# Altium schematic symbol library Diodes.SchLib: 46 symbols
Pins are listed as number, name and electrical type; pins without a type are passive.

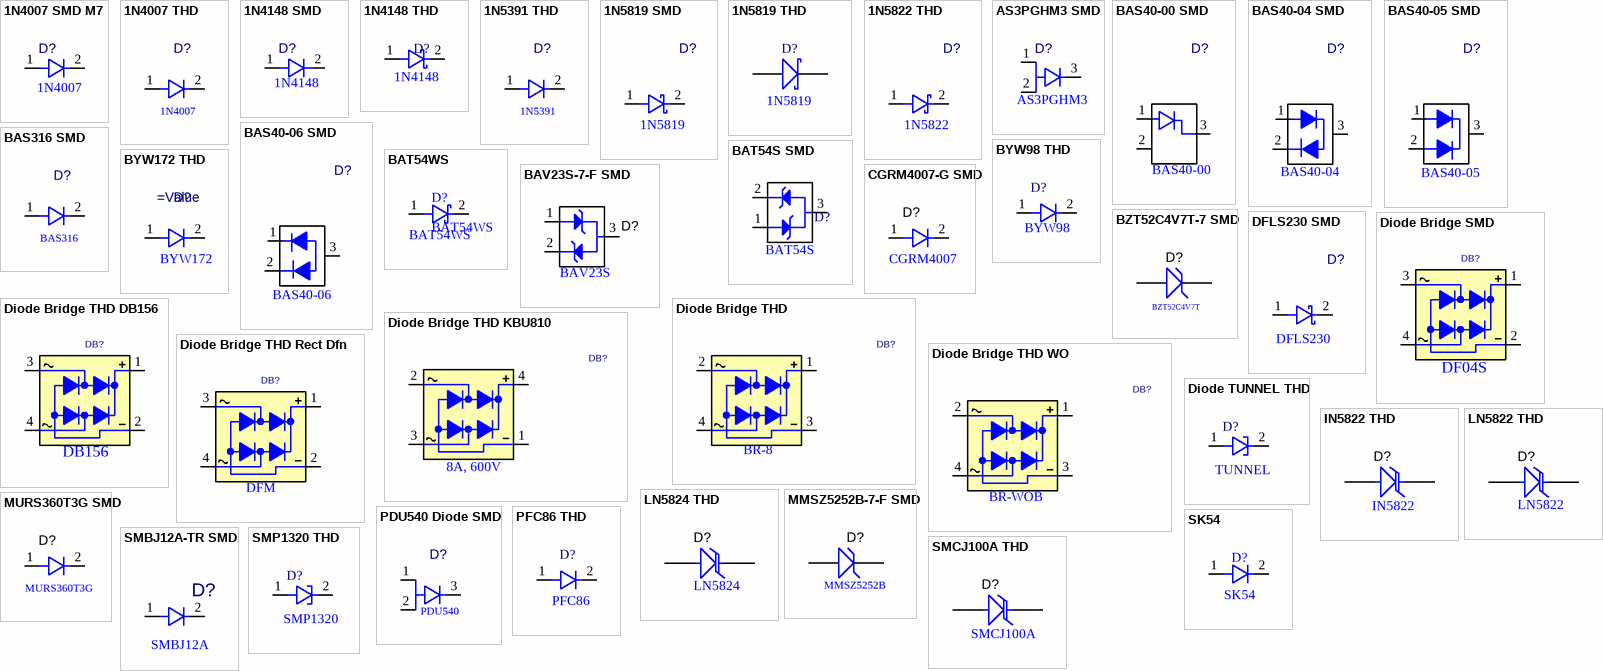
[diagram p0: symbols 1N4007 SMD M7 to SMP1320 THD]

## 1N4007 SMD M7
designator D?  value 1N4007
DIODE, GENERAL PURPOSE, 1000V/1A; DatasheetVersion: 2022
footprint SMA (L4.2-W2.6-LS5.3-RD     JLCPCB)
pins: 1, 2

## 1N4007 THD
designator D?  value 1N4007
DIODE, GENERAL PURPOSE, 1000V/1A; DatasheetVersion: 2022
pins: 1, 2

## 1N4148 SMD
designator D?  value 1N4148
DIODE, FAST SWTICHING, 0.3A, 0.5W; DatasheetVersion: 2022
footprint SOD-323 (L1.8-W1.3-LS2.5-RD        JLCPCB)
pins: 1, 2

## 1N4148 THD
designator D?  value 1N4148
High Conductance Fast Diode; DatasheetVersion: 2022
pins: 1, 2

## 1N5391 THD
designator D?  value 1N5391
DIODE, GENERAL PURPOSE,; DatasheetVersion: 2022
pins: 1, 2

## 1N5819 SMD
designator D?  value 1N5819
DIODE, SCHOTTKY, 40V, 1A; DatasheetVersion: 2022
footprint SOD-123 (L2.8-W1.8-LS3.7-RD        JLCPCB)
pins: 1, 2

## 1N5819 THD
designator D?  value 1N5819
Schottky diode; ComponentLinkp-URL: https://www.smartw.ir/; DatasheetVersion: 2022
pins: 1 A, 2 K

## 1N5822 THD
designator D?  value 1N5822
DIODE, SCHOTTKY, 40V, 3A; DatasheetVersion: 2022
pins: 1 A, 2 K

## AS3PGHM3 SMD
designator D?  value AS3PGHM3
DIODE, FAST, 3A, 400V; DatasheetVersion: 2022
pins: 1 A1, 2 A2, 3 CATHODE

## BAS40-00 SMD
designator D?  value BAS40-00
DIODE, SCHOTTKY, 40V, 0.2A; DatasheetVersion: 2022
pins: 1, 2, 3 "Not Connected"

## BAS40-04 SMD
designator D?  value BAS40-04
DIODE, SCHOTTKY, 40V, 0.2A; DatasheetVersion: 2022
pins: 1, 2, 3 "Not Connected"

## BAS40-05 SMD
designator D?  value BAS40-05
DIODE, SCHOTTKY, 40V, 0.2A; DatasheetVersion: 2022
pins: 1, 2, 3 "Not Connected"

## BAS40-06 SMD
designator D?  value BAS40-06
DIODE, SCHOTTKY, 40V, 0.2A; DatasheetVersion: 2022
pins: 1, 2, 3 "Not Connected"

## BAS316 SMD
designator D?  value BAS316
DIODE, HiSP SW, 100V/0.25A, SOD-323; DatasheetVersion: 2022
pins: 1, 2

## BAT54S SMD
designator D?  value BAT54S
BAT54S / Schottky Barrier Double Diode; DatasheetVersion: 2022
pins: 1 "Not Connected", 2 "Not Connected", 3 "Not Connected"

## BAT54WS
designator D?
SMALL SIGNAL SCHOTTKY DIODE; Value: BAT54WS
footprint SOD-523 (L1.2-W0.8-LS1.6-FD                  JLCPCB)
pins: 1 A, 2 K

## BAV23S-7-F SMD
designator D?  value BAV23S
Diode, Switching, 200 V, 0.4 A, SOT-23; DatasheetVersion: 2022
pins: 1 "Not Connected", 2 "Not Connected", 3 "Not Connected"
1 alternate drawing of the same symbol

## BYW98 THD
designator D?  value BYW98
HIGH EFFICIENCY FAST RECOVERY RECTIFIER DIODES; DatasheetVersion: 2022
pins: 1, 2

## BYW172 THD
designator D?  =Value: BYW172
DIODE, FAST; DatasheetVersion: 2022
pins: 1, 2

## BZT52C4V7T-7 SMD
designator D?  value BZT52C4V7T
Diode, Zener, 4.7 V, 300 mW, SOD-523; DatasheetVersion: 2022
pins: 1 A, 2 K

## CGRM4007-G SMD
designator D?  value CGRM4007
Diode, P-N, 1000 V, 1 A, 3.9x1.7x1.8mm; DatasheetVersion: 2022
pins: 1, 2

## DFLS230 SMD
designator D?  value DFLS230
DIODE, SCHOTTKY, 30V, 2A; DatasheetVersion: 2022
pins: 1, 2

## Diode Bridge SMD
designator DB?  value DF04S
DIODE, BRIDGE,; DatasheetVersion: 2022
pins: 1 DCOUT+, 2 DCOUT-, 3 ACIN2, 4 ACIN1

## Diode Bridge THD
designator DB?  value BR-8
DIODE, BRIDGE, 8A, 600V; DatasheetVersion: 2022
pins: 1 +DC, 2 AC1, 3 -DC, 4 AC2

## Diode Bridge THD DB156
designator DB?  value DB156
DIODE, BRIDGE,; DatasheetVersion: 2022
pins: 1 DCOUT+, 2 DCOUT-, 3 ACIN2, 4 ACIN1

## Diode Bridge THD KBU810
designator DB?  value 8A, 600V
DIODE, BRIDGE, 8A, 600V; DatasheetVersion: 2022
pins: 1 -DC, 2 AC1, 3 AC2, 4 +DC

## Diode Bridge THD Rect Dfn
designator DB?  value DFM
DIODE, BRIDGE,; DatasheetVersion: 2022
pins: 1 DCOUT+, 2 DCOUT-, 3 ACIN2, 4 ACIN1

## Diode Bridge THD WO
designator DB?  value BR-WOB
DIODE, BRIDGE,; DatasheetVersion: 2022
pins: 1 +DC, 2 AC1, 3 -DC, 4 AC2

## Diode TUNNEL THD
designator D?  value TUNNEL
DIODE, THD, TUNNEL or PIN diode; DatasheetVersion: 2022
pins: 1, 2

## IN5822 THD
designator D?  value IN5822
Diode, , 20 - 40V, 3.0 A; DatasheetVersion: 2022
pins: 1 A, 2 K

## LN5822 THD
designator D?  value LN5822
Diode, , 40V, 3.0 A; DatasheetVersion: 2022
pins: 1 A, 2 K

## LN5824 THD
designator D?  value LN5824
Diode, , 20 - 40V, 5.0 A; DatasheetVersion: 2022
pins: 1 A, 2 K

## MMSZ5252B-7-F SMD
designator D?  value MMSZ5252B
Diode, Zener, 24V, 500mW, SOD-123; DatasheetVersion: 2022
pins: 1 A, 2 K

## MURS360T3G SMD
designator D?  value MURS360T3G
Diode, Ultrafast, 600 V, 3 A, SMC; DatasheetVersion: 2022
pins: 1, 2

## PDU540 Diode SMD
designator D?  value PDU540
DIODE, FAST, 5A, 400V; DatasheetVersion: 2022
pins: 1 A1, 2 A2, 3 CATHODE

## PFC86 THD
designator D?  value PFC86
8 A 600V HYPERFAST RECOVERY RECTIFIER; DatasheetVersion: 2022
pins: 1, 2

## SK54
designator D?
Value: SK54
footprint SMC (L7.1-W6.2-LS8.1-RD     JLCPCB)
pins: 1, 2

## SMBJ12A-TR SMD
designator D?  value SMBJ12A
TVS Surface Mount Transient Voltage Suppressors Diode; DatasheetVersion: 2022
footprint SMB
pins: 1, 2

## SMCJ100A THD
designator D?  value SMCJ100A
Diode, TVS, Uni, 130V, 1500 W, TH; DatasheetVersion: 2022
pins: 1 A, 2 K

## SMP1320 THD
designator D?  value SMP1320
DIODE, SMD, TUNNEL; DatasheetVersion: 2022
pins: 1, 2

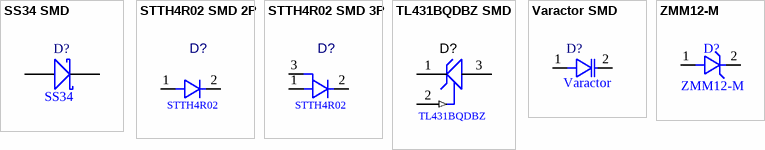
[diagram p1: symbols SS34 SMD to ZMM12-M]

## SS34 SMD
designator D?  value SS34
Schottky diode; ComponentLinkp-URL: https://www.smartw.ir/; DatasheetVersion: 2022
pins: 1 A, 2 K

## STTH4R02 SMD 2P
designator D?  value STTH4R02
DIODE, FAST, 4A, 200V; DatasheetVersion: 2022
pins: 1, 2

## STTH4R02 SMD 3P
designator D?  value STTH4R02
DIODE, FAST, 4A, 200V; DatasheetVersion: 2022
footprint TO-252-2
pins: 1 A, 2 CATHODE, 3 NC

## TL431BQDBZ SMD
designator D?  value TL431BQDBZ
PRECISION PROGRAMMABLE REFERENCE, DBZ0003A; DatasheetVersion: 2022
pins: 1 CATHODE, 2 REF (in), 3 ANODE

## Varactor SMD
designator D?  value Varactor
Variable Capacitance Diode; DatasheetVersion: 2022
pins: 1, 2

## ZMM12-M
designator D?
Value: ZMM12-M
footprint Micro MELF
pins: 1, 2